# Altium integrated library SJ1-3544.IntLib: 1 symbol
Pins are listed as number, name and electrical type; pins without a type are passive.

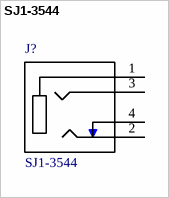
[diagram p0: symbol SJ1-3544]

## SJ1-3544
designator J?
Value: *
footprint CUI_SJ1-3544
pins: 1, 2, 3, 4